# EAGLE library part 74LCX541 (library 74lcx)
Octal BUFFER and LINE DRIVER, 3-state
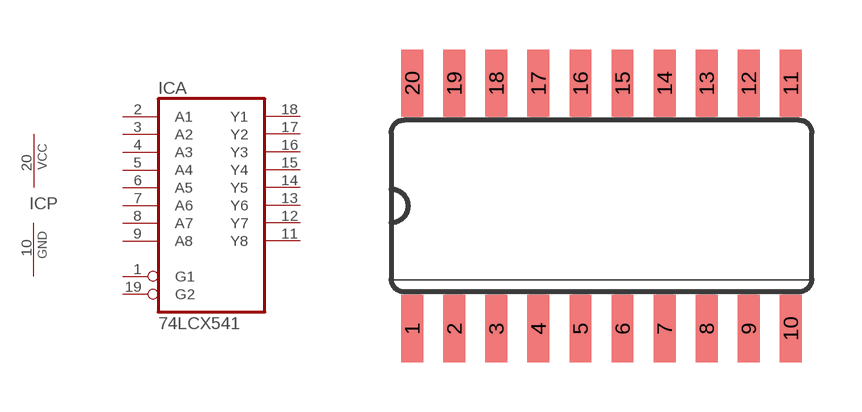
[diagram p0: symbol with the pads of SO20; footprint SO20]

Designator prefix IC; gates A=74541 P=PWRN

## 74LCX541  [SO20]
1  A:G1  in
2  A:A1  in
3  A:A2  in
4  A:A3  in
5  A:A4  in
6  A:A5  in
7  A:A6  in
8  A:A7  in
9  A:A8  in
10  P:GND  pwr
11  A:Y8  hiz
12  A:Y7  hiz
13  A:Y6  hiz
14  A:Y5  hiz
15  A:Y4  hiz
16  A:Y3  hiz
17  A:Y2  hiz
18  A:Y1  hiz
19  A:G2  in
20  P:VCC  pwr

## Footprint SO20 (pad centres in mm)
Wide Small Outline package 250 mil
smd 0.66 x 2.032: 1 -5.08,-3.708; 2 -3.81,-3.708; 3 -2.54,-3.708; 4 -1.27,-3.708; 5 0,-3.708; 6 1.27,-3.708; 7 2.54,-3.708; 8 3.81,-3.708; 9 5.08,-3.708; 10 6.35,-3.708; 11 6.35,3.708; 12 5.08,3.708; 13 3.81,3.708; 14 2.54,3.708; 15 1.27,3.708; 16 0,3.708; 17 -1.27,3.708; 18 -2.54,3.708; 19 -3.81,3.708; 20 -5.08,3.708